# Altium footprint library wafer-scale-psd.PCBLIB: 8 footprints
Each footprint in its own frame and in the unit in brackets; x right, y up, seen from the top. Pads: shape width x height; smd on the part's side, far side on the other; paste and mask are expansions set on the pad; w line width, h text height; cw(c..) or ccw(c..) is an arc to the next point about the centre after c.
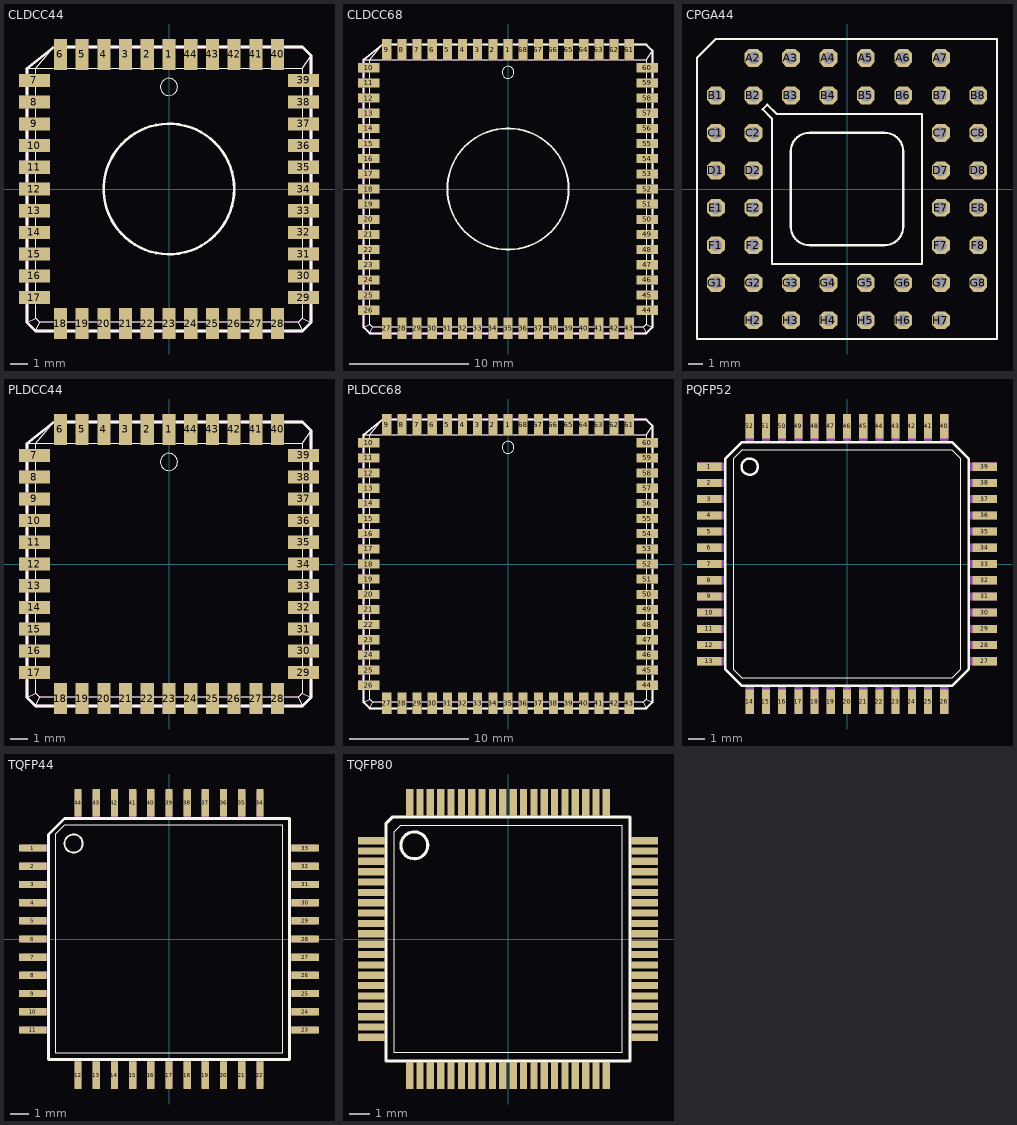
[diagram p0: the footprints below, top view; thin cyan lines are the x and y axes]

## CLDCC44 [mil]
pads (44):
  rect 29.92x70.87 smd: 1(0,309.45) 2(-50,309.45) 3(-100,309.45) 4(-150,309.45) 5(-200,309.45) 6(-250,309.45) 18(-250,-309.45) 19(-200,-309.45) 20(-150,-309.45) 21(-100,-309.45) 22(-50,-309.45) 23(0,-309.45) 24(50,-309.45) 25(100,-309.45) 26(150,-309.45) 27(200,-309.45) 28(250,-309.45) 40(250,309.45) 41(200,309.45) 42(150,309.45) 43(100,309.45) 44(50,309.45)
  rect 70.87x29.92 smd: 7(-309.45,250) 8(-309.45,200) 9(-309.45,150) 10(-309.45,100) 11(-309.45,50) 12(-309.45,0) 13(-309.45,-50) 14(-309.45,-100) 15(-309.45,-150) 16(-309.45,-200) 17(-309.45,-250) 29(309.45,-250) 30(309.45,-200) 31(309.45,-150) 32(309.45,-100) 33(309.45,-50) 34(309.45,0) 35(309.45,50) 36(309.45,100) 37(309.45,150) 38(309.45,200) 39(309.45,250)
Top Overlay:
  circle w2: c0,234.65 r19.69
  circle w6: c0,0 r150
  lines w2: -326.38,-306.69 -306.69,-296.85 ; -326.38,277.17 -306.69,277.17 ; -306.69,-326.38 -296.85,-306.69 ; -306.69,-265.75 -306.69,-296.85 ; -306.69,-234.25 -306.69,-215.75 ; -306.69,-184.25 -306.69,-165.75 ; -306.69,-134.25 -306.69,-115.75 ; -306.69,-84.25 -306.69,-65.75 ; -306.69,-34.25 -306.69,-15.75 ; -306.69,15.75 -306.69,34.25 ; -306.69,65.75 -306.69,84.25 ; -306.69,115.75 -306.69,134.25 ; -306.69,165.75 -306.69,184.25 ; -306.69,215.75 -306.69,234.25 ; -306.69,265.75 -306.69,277.17 ; -265.75,-306.69 -296.85,-306.69 ; -265.75,277.17 -306.69,277.17 ; -265.75,325.59 -306.69,277.17 ; -234.25,-306.69 -215.75,-306.69 ; -234.25,277.17 -215.75,277.17 ; -184.25,-306.69 -165.75,-306.69 ; -184.25,277.17 -165.75,277.17 ; -134.25,-306.69 -115.75,-306.69 ; -134.25,277.17 -115.75,277.17 ; -84.25,-306.69 -65.75,-306.69 ; -84.25,277.17 -65.75,277.17 ; -34.25,-306.69 -15.75,-306.69 ; -34.25,277.17 -15.75,277.17 ; 15.75,-306.69 34.25,-306.69 ; 15.75,277.17 34.25,277.17 ; 65.75,-306.69 84.25,-306.69 ; 65.75,277.17 84.25,277.17 ; 115.75,-306.69 134.25,-306.69 ; 115.75,277.17 134.25,277.17 ; 165.75,-306.69 184.25,-306.69 ; 165.75,277.17 184.25,277.17 ; 215.75,-306.69 234.25,-306.69 ; 215.75,277.17 234.25,277.17 ; 265.75,-306.69 296.85,-306.69 ; 265.75,277.17 306.69,277.17 ; 306.69,-326.38 296.85,-306.69 ; 306.69,-265.75 306.69,-296.85 ; 306.69,-234.25 306.69,-215.75 ; 306.69,-184.25 306.69,-165.75 ; 306.69,-134.25 306.69,-115.75 ; 306.69,-84.25 306.69,-65.75 ; 306.69,-34.25 306.69,-15.75 ; 306.69,15.75 306.69,34.25 ; 306.69,65.75 306.69,84.25 ; 306.69,115.75 306.69,134.25 ; 306.69,165.75 306.69,184.25 ; 306.69,215.75 306.69,234.25 ; 306.69,265.75 306.69,277.17 ; 326.38,-306.69 306.69,-296.85 ; 326.38,306.69 306.69,277.17 ; -306.69,-296.85 -296.85,-306.69 ; 296.85,-306.69 306.69,-296.85
  lines w6: -326.38,-267.32 -326.38,-306.69 -306.69,-326.38 -267.32,-326.38 ; -326.38,-232.68 -326.38,-217.32 ; -326.38,-182.68 -326.38,-167.32 ; -326.38,-132.68 -326.38,-117.32 ; -326.38,-82.68 -326.38,-67.32 ; -326.38,-32.68 -326.38,-17.32 ; -326.38,17.32 -326.38,32.68 ; -326.38,67.32 -326.38,82.68 ; -326.38,117.32 -326.38,132.68 ; -326.38,167.32 -326.38,182.68 ; -326.38,217.32 -326.38,232.68 ; -326.38,267.32 -326.38,277.17 -267.32,324.41 ; -232.68,-326.38 -217.32,-326.38 ; -232.68,326.38 -217.32,326.38 ; -182.68,-326.38 -167.32,-326.38 ; -182.68,326.38 -167.32,326.38 ; -132.68,-326.38 -117.32,-326.38 ; -132.68,326.38 -117.32,326.38 ; -82.68,-326.38 -67.32,-326.38 ; -82.68,326.38 -67.32,326.38 ; -32.68,-326.38 -17.32,-326.38 ; -32.68,326.38 -17.32,326.38 ; 17.32,-326.38 32.68,-326.38 ; 17.32,326.38 32.68,326.38 ; 67.32,-326.38 82.68,-326.38 ; 67.32,326.38 82.68,326.38 ; 117.32,-326.38 132.68,-326.38 ; 117.32,326.38 132.68,326.38 ; 167.32,-326.38 182.68,-326.38 ; 167.32,326.38 182.68,326.38 ; 217.32,-326.38 232.68,-326.38 ; 217.32,326.38 232.68,326.38 ; 267.32,-326.38 306.69,-326.38 326.38,-306.69 326.38,-267.32 ; 267.32,326.38 306.69,326.38 326.38,306.69 326.38,267.32 ; 326.38,-232.68 326.38,-217.32 ; 326.38,-182.68 326.38,-167.32 ; 326.38,-132.68 326.38,-117.32 ; 326.38,-82.68 326.38,-67.32 ; 326.38,-32.68 326.38,-17.32 ; 326.38,17.32 326.38,32.68 ; 326.38,67.32 326.38,82.68 ; 326.38,117.32 326.38,132.68 ; 326.38,167.32 326.38,182.68 ; 326.38,217.32 326.38,232.68
Mechanical 16:
  rectangle: 326.38,85.04 344.88,114.96
  rectangle: 326.38,35.04 344.88,64.96
  rectangle: 326.38,-14.96 344.88,14.96
  rectangle: 326.38,-64.96 344.88,-35.04
  rectangle: 326.38,-114.96 344.88,-85.04
  rectangle: 326.38,-164.96 344.88,-135.04
  rectangle: 326.38,-214.96 344.88,-185.04
  rectangle: 135.04,-344.88 164.96,-326.38
  rectangle: 85.04,-344.88 114.96,-326.38
  rectangle: 35.04,-344.88 64.96,-326.38
  rectangle: -14.96,-344.88 14.96,-326.38
  rectangle: -64.96,-344.88 -35.04,-326.38
  rectangle: -114.96,-344.88 -85.04,-326.38
  rectangle: -264.96,-344.88 -235.04,-326.38
  rectangle: -344.88,185.04 -326.38,214.96
  rectangle: -344.88,135.04 -326.38,164.96
  rectangle: -344.88,85.04 -326.38,114.96
  rectangle: -344.88,35.04 -326.38,64.96
  rectangle: -344.88,-14.96 -326.38,14.96
  rectangle: -344.88,-64.96 -326.38,-35.04
  rectangle: -344.88,-114.96 -326.38,-85.04
  rectangle: 135.04,326.38 164.96,344.88
  rectangle: 85.04,326.38 114.96,344.88
  rectangle: 35.04,326.38 64.96,344.88
  rectangle: -14.96,326.38 14.96,344.88
  rectangle: -64.96,326.38 -35.04,344.88
  rectangle: -114.96,326.38 -85.04,344.88
  rectangle: -264.96,326.38 -235.04,344.88
  rectangle: 326.38,135.04 344.88,164.96
  rectangle: 326.38,185.04 344.88,214.96
  rectangle: -344.88,-164.96 -326.38,-135.04
  rectangle: -344.88,-214.96 -326.38,-185.04
  rectangle: 185.04,326.38 214.96,344.88
  rectangle: 235.04,326.38 264.96,344.88
  rectangle: -164.96,326.38 -135.04,344.88
  rectangle: -214.96,326.38 -185.04,344.88
  rectangle: -344.88,-264.96 -326.38,-235.04
  rectangle: -214.96,-344.88 -185.04,-326.38
  rectangle: -164.96,-344.88 -135.04,-326.38
  rectangle: 185.04,-344.88 214.96,-326.38
  rectangle: 235.04,-344.88 264.96,-326.38
  rectangle: 326.38,-264.96 344.88,-235.04
  rectangle: 326.38,235.04 344.88,264.96
  rectangle: -344.88,235.04 -326.38,264.96
  lines w2: -326.38,-306.69 -306.69,-296.85 ; -326.38,277.17 -306.69,277.17 ; -306.69,-326.38 -296.85,-306.69 ; -264.96,326.38 -306.69,277.17 ; 306.69,-326.38 296.85,-306.69 ; 326.38,-306.69 306.69,-296.85 ; 326.38,306.69 306.69,277.17 ; -306.69,-296.85 -296.85,-306.69 ; -306.69,-296.85 -306.69,277.17 ; -306.69,277.17 306.69,277.17 ; -296.85,-306.69 296.85,-306.69 ; 296.85,-306.69 306.69,-296.85 ; 306.69,-296.85 306.69,277.17
  lines w6: -326.38,-306.69 -306.69,-326.38 306.69,-326.38 326.38,-306.69 326.38,306.69 306.69,326.38 -264.96,326.38 -326.38,277.17 -326.38,-306.69

## CLDCC68 [mil]
pads (68):
  rect 29.92x70.87 smd: 1(0,459.45) 2(-50,459.45) 3(-100,459.45) 4(-150,459.45) 5(-200,459.45) 6(-250,459.45) 7(-300,459.45) 8(-350,459.45) 9(-400,459.45) 27(-400,-459.45) 28(-350,-459.45) 29(-300,-459.45) 30(-250,-459.45) 31(-200,-459.45) 32(-150,-459.45) 33(-100,-459.45) 34(-50,-459.45) 35(0,-459.45) 36(50,-459.45) 37(100,-459.45) 38(150,-459.45) 39(200,-459.45) 40(250,-459.45) 41(300,-459.45) 42(350,-459.45) 43(400,-459.45) 61(400,459.45) 62(350,459.45) 63(300,459.45) 64(250,459.45) 65(200,459.45) 66(150,459.45) 67(100,459.45) 68(50,459.45)
  rect 70.87x29.92 smd: 10(-459.45,400) 11(-459.45,350) 12(-459.45,300) 13(-459.45,250) 14(-459.45,200) 15(-459.45,150) 16(-459.45,100) 17(-459.45,50) 18(-459.45,0) 19(-459.45,-50) 20(-459.45,-100) 21(-459.45,-150) 22(-459.45,-200) 23(-459.45,-250) 24(-459.45,-300) 25(-459.45,-350) 26(-459.45,-400) 44(459.45,-400) 45(459.45,-350) 46(459.45,-300) 47(459.45,-250) 48(459.45,-200) 49(459.45,-150) 50(459.45,-100) 51(459.45,-50) 52(459.45,0) 53(459.45,50) 54(459.45,100) 55(459.45,150) 56(459.45,200) 57(459.45,250) 58(459.45,300) 59(459.45,350) 60(459.45,400)
Top Overlay:
  drawing of 158 lines, arcs and shapes, not listed
Mechanical 16:
  rectangle: 476.38,85.04 494.88,114.96
  rectangle: 476.38,35.04 494.88,64.96
  rectangle: 476.38,-14.96 494.88,14.96
  rectangle: 476.38,-64.96 494.88,-35.04
  rectangle: 476.38,-114.96 494.88,-85.04
  rectangle: 476.38,-164.96 494.88,-135.04
  rectangle: 476.38,-214.96 494.88,-185.04
  rectangle: 135.04,-494.88 164.96,-476.38
  rectangle: 85.04,-494.88 114.96,-476.38
  rectangle: 35.04,-494.88 64.96,-476.38
  rectangle: -14.96,-494.88 14.96,-476.38
  rectangle: -64.96,-494.88 -35.04,-476.38
  rectangle: -114.96,-494.88 -85.04,-476.38
  rectangle: -414.96,-494.88 -385.04,-476.38
  rectangle: -494.88,185.04 -476.38,214.96
  rectangle: -494.88,135.04 -476.38,164.96
  rectangle: -494.88,85.04 -476.38,114.96
  rectangle: -494.88,35.04 -476.38,64.96
  rectangle: -494.88,-14.96 -476.38,14.96
  rectangle: -494.88,-64.96 -476.38,-35.04
  rectangle: -494.88,-114.96 -476.38,-85.04
  rectangle: 135.04,476.38 164.96,494.88
  rectangle: 85.04,476.38 114.96,494.88
  rectangle: 35.04,476.38 64.96,494.88
  rectangle: -14.96,476.38 14.96,494.88
  rectangle: -64.96,476.38 -35.04,494.88
  rectangle: -114.96,476.38 -85.04,494.88
  rectangle: -414.96,476.38 -385.04,494.88
  rectangle: 476.38,135.04 494.88,164.96
  rectangle: 476.38,185.04 494.88,214.96
  rectangle: -494.88,-164.96 -476.38,-135.04
  rectangle: -494.88,-214.96 -476.38,-185.04
  rectangle: 185.04,476.38 214.96,494.88
  rectangle: 235.04,476.38 264.96,494.88
  rectangle: -164.96,476.38 -135.04,494.88
  rectangle: -214.96,476.38 -185.04,494.88
  rectangle: -494.88,-264.96 -476.38,-235.04
  rectangle: -214.96,-494.88 -185.04,-476.38
  rectangle: -164.96,-494.88 -135.04,-476.38
  rectangle: 185.04,-494.88 214.96,-476.38
  rectangle: 235.04,-494.88 264.96,-476.38
  rectangle: 476.38,-264.96 494.88,-235.04
  rectangle: 476.38,235.04 494.88,264.96
  rectangle: -494.88,235.04 -476.38,264.96
  rectangle: -264.96,-494.88 -235.04,-476.38
  rectangle: -314.96,-494.88 -285.04,-476.38
  rectangle: -364.96,-494.88 -335.04,-476.38
  rectangle: -494.88,-314.96 -476.38,-285.04
  rectangle: -494.88,-364.96 -476.38,-335.04
  rectangle: -494.88,-414.96 -476.38,-385.04
  rectangle: -494.88,285.04 -476.38,314.96
  rectangle: -494.88,335.04 -476.38,364.96
  rectangle: -494.88,385.04 -476.38,414.96
  rectangle: -264.96,476.38 -235.04,494.88
  rectangle: -314.96,476.38 -285.04,494.88
  rectangle: -364.96,476.38 -335.04,494.88
  rectangle: 476.38,285.04 494.88,314.96
  rectangle: 476.38,335.04 494.88,364.96
  rectangle: 476.38,385.04 494.88,414.96
  rectangle: 285.04,476.38 314.96,494.88
  rectangle: 335.04,476.38 364.96,494.88
  rectangle: 385.04,476.38 414.96,494.88
  rectangle: 476.38,-314.96 494.88,-285.04
  rectangle: 476.38,-364.96 494.88,-335.04
  rectangle: 476.38,-414.96 494.88,-385.04
  rectangle: 285.04,-494.88 314.96,-476.38
  rectangle: 335.04,-494.88 364.96,-476.38
  rectangle: 385.04,-494.88 414.96,-476.38
  lines w2: -476.38,-456.69 -456.69,-446.85 ; -476.38,427.17 -456.69,427.17 ; -456.69,-476.38 -446.85,-456.69 ; -414.96,476.38 -456.69,427.17 ; 456.69,-476.38 446.85,-456.69 ; 476.38,-456.69 456.69,-446.85 ; 476.38,456.69 456.69,427.17 ; -456.69,-446.85 -446.85,-456.69 ; -456.69,-446.85 -456.69,427.17 ; -456.69,427.17 456.69,427.17 ; -446.85,-456.69 446.85,-456.69 ; 446.85,-456.69 456.69,-446.85 ; 456.69,-446.85 456.69,427.17
  lines w6: -476.38,-456.69 -456.69,-476.38 456.69,-476.38 476.38,-456.69 476.38,456.69 456.69,476.38 -414.96,476.38 -476.38,427.17 -476.38,-456.69

## CPGA44 [mil]
pads (44):
  oct 48x48 hole 32: A2(-250,350) A3(-150,350) A4(-50,350) A5(50,350) A6(150,350) A7(250,350) B1(-350,250) B2(-250,250) B3(-150,250) B4(-50,250) B5(50,250) B6(150,250) B7(250,250) B8(350,250) C1(-350,150) C2(-250,150) C7(250,150) C8(350,150) D1(-350,50) D2(-250,50) D7(250,50) D8(350,50) E1(-350,-50) E2(-250,-50) E7(250,-50) E8(350,-50) F1(-350,-150) F2(-250,-150) F7(250,-150) F8(350,-150) G1(-350,-250) G2(-250,-250) G3(-150,-250) G4(-50,-250) G5(50,-250) G6(150,-250) G7(250,-250) G8(350,-250) H2(-250,-350) H3(-150,-350) H4(-50,-350) H5(50,-350) H6(150,-350) H7(250,-350)
Top Overlay:
  lines w6: -400,-400 -400,350 -350,400 400,400 400,-400 -400,-400 ; -225,212.5 -200,187.5 -200,-200 200,-200 200,200 -187.5,200 -212.5,225 -225,212.5 ; -150,-100 -150,100 cw(c-100,100) -100,150 100,150 cw(c100,100) 150,100 150,-100 cw(c100,-100) 100,-150 -100,-150 cw(c-100,-100) -150,-100

## PLDCC44 [mil]
pads (44):
  rect 29.92x70.87 smd: 1(0,309.45) 2(-50,309.45) 3(-100,309.45) 4(-150,309.45) 5(-200,309.45) 6(-250,309.45) 18(-250,-309.45) 19(-200,-309.45) 20(-150,-309.45) 21(-100,-309.45) 22(-50,-309.45) 23(0,-309.45) 24(50,-309.45) 25(100,-309.45) 26(150,-309.45) 27(200,-309.45) 28(250,-309.45) 40(250,309.45) 41(200,309.45) 42(150,309.45) 43(100,309.45) 44(50,309.45)
  rect 70.87x29.92 smd: 7(-309.45,250) 8(-309.45,200) 9(-309.45,150) 10(-309.45,100) 11(-309.45,50) 12(-309.45,0) 13(-309.45,-50) 14(-309.45,-100) 15(-309.45,-150) 16(-309.45,-200) 17(-309.45,-250) 29(309.45,-250) 30(309.45,-200) 31(309.45,-150) 32(309.45,-100) 33(309.45,-50) 34(309.45,0) 35(309.45,50) 36(309.45,100) 37(309.45,150) 38(309.45,200) 39(309.45,250)
Top Overlay:
  circle w2: c0,234.65 r19.69
  lines w2: -326.38,-306.69 -306.69,-296.85 ; -326.38,277.17 -306.69,277.17 ; -306.69,-326.38 -296.85,-306.69 ; -306.69,-265.75 -306.69,-296.85 ; -306.69,-234.25 -306.69,-215.75 ; -306.69,-184.25 -306.69,-165.75 ; -306.69,-134.25 -306.69,-115.75 ; -306.69,-84.25 -306.69,-65.75 ; -306.69,-34.25 -306.69,-15.75 ; -306.69,15.75 -306.69,34.25 ; -306.69,65.75 -306.69,84.25 ; -306.69,115.75 -306.69,134.25 ; -306.69,165.75 -306.69,184.25 ; -306.69,215.75 -306.69,234.25 ; -306.69,265.75 -306.69,277.17 ; -265.75,-306.69 -296.85,-306.69 ; -265.75,277.17 -306.69,277.17 ; -265.75,325.59 -306.69,277.17 ; -234.25,-306.69 -215.75,-306.69 ; -234.25,277.17 -215.75,277.17 ; -184.25,-306.69 -165.75,-306.69 ; -184.25,277.17 -165.75,277.17 ; -134.25,-306.69 -115.75,-306.69 ; -134.25,277.17 -115.75,277.17 ; -84.25,-306.69 -65.75,-306.69 ; -84.25,277.17 -65.75,277.17 ; -34.25,-306.69 -15.75,-306.69 ; -34.25,277.17 -15.75,277.17 ; 15.75,-306.69 34.25,-306.69 ; 15.75,277.17 34.25,277.17 ; 65.75,-306.69 84.25,-306.69 ; 65.75,277.17 84.25,277.17 ; 115.75,-306.69 134.25,-306.69 ; 115.75,277.17 134.25,277.17 ; 165.75,-306.69 184.25,-306.69 ; 165.75,277.17 184.25,277.17 ; 215.75,-306.69 234.25,-306.69 ; 215.75,277.17 234.25,277.17 ; 265.75,-306.69 296.85,-306.69 ; 265.75,277.17 306.69,277.17 ; 306.69,-326.38 296.85,-306.69 ; 306.69,-265.75 306.69,-296.85 ; 306.69,-234.25 306.69,-215.75 ; 306.69,-184.25 306.69,-165.75 ; 306.69,-134.25 306.69,-115.75 ; 306.69,-84.25 306.69,-65.75 ; 306.69,-34.25 306.69,-15.75 ; 306.69,15.75 306.69,34.25 ; 306.69,65.75 306.69,84.25 ; 306.69,115.75 306.69,134.25 ; 306.69,165.75 306.69,184.25 ; 306.69,215.75 306.69,234.25 ; 306.69,265.75 306.69,277.17 ; 326.38,-306.69 306.69,-296.85 ; 326.38,306.69 306.69,277.17 ; -306.69,-296.85 -296.85,-306.69 ; 296.85,-306.69 306.69,-296.85
  lines w6: -326.38,-267.32 -326.38,-306.69 -306.69,-326.38 -267.32,-326.38 ; -326.38,-232.68 -326.38,-217.32 ; -326.38,-182.68 -326.38,-167.32 ; -326.38,-132.68 -326.38,-117.32 ; -326.38,-82.68 -326.38,-67.32 ; -326.38,-32.68 -326.38,-17.32 ; -326.38,17.32 -326.38,32.68 ; -326.38,67.32 -326.38,82.68 ; -326.38,117.32 -326.38,132.68 ; -326.38,167.32 -326.38,182.68 ; -326.38,217.32 -326.38,232.68 ; -326.38,267.32 -326.38,277.17 -267.32,324.41 ; -232.68,-326.38 -217.32,-326.38 ; -232.68,326.38 -217.32,326.38 ; -182.68,-326.38 -167.32,-326.38 ; -182.68,326.38 -167.32,326.38 ; -132.68,-326.38 -117.32,-326.38 ; -132.68,326.38 -117.32,326.38 ; -82.68,-326.38 -67.32,-326.38 ; -82.68,326.38 -67.32,326.38 ; -32.68,-326.38 -17.32,-326.38 ; -32.68,326.38 -17.32,326.38 ; 17.32,-326.38 32.68,-326.38 ; 17.32,326.38 32.68,326.38 ; 67.32,-326.38 82.68,-326.38 ; 67.32,326.38 82.68,326.38 ; 117.32,-326.38 132.68,-326.38 ; 117.32,326.38 132.68,326.38 ; 167.32,-326.38 182.68,-326.38 ; 167.32,326.38 182.68,326.38 ; 217.32,-326.38 232.68,-326.38 ; 217.32,326.38 232.68,326.38 ; 267.32,-326.38 306.69,-326.38 326.38,-306.69 326.38,-267.32 ; 267.32,326.38 306.69,326.38 326.38,306.69 326.38,267.32 ; 326.38,-232.68 326.38,-217.32 ; 326.38,-182.68 326.38,-167.32 ; 326.38,-132.68 326.38,-117.32 ; 326.38,-82.68 326.38,-67.32 ; 326.38,-32.68 326.38,-17.32 ; 326.38,17.32 326.38,32.68 ; 326.38,67.32 326.38,82.68 ; 326.38,117.32 326.38,132.68 ; 326.38,167.32 326.38,182.68 ; 326.38,217.32 326.38,232.68
Mechanical 16:
  rectangle: 326.38,85.04 344.88,114.96
  rectangle: 326.38,35.04 344.88,64.96
  rectangle: 326.38,-14.96 344.88,14.96
  rectangle: 326.38,-64.96 344.88,-35.04
  rectangle: 326.38,-114.96 344.88,-85.04
  rectangle: 326.38,-164.96 344.88,-135.04
  rectangle: 326.38,-214.96 344.88,-185.04
  rectangle: 135.04,-344.88 164.96,-326.38
  rectangle: 85.04,-344.88 114.96,-326.38
  rectangle: 35.04,-344.88 64.96,-326.38
  rectangle: -14.96,-344.88 14.96,-326.38
  rectangle: -64.96,-344.88 -35.04,-326.38
  rectangle: -114.96,-344.88 -85.04,-326.38
  rectangle: -264.96,-344.88 -235.04,-326.38
  rectangle: -344.88,185.04 -326.38,214.96
  rectangle: -344.88,135.04 -326.38,164.96
  rectangle: -344.88,85.04 -326.38,114.96
  rectangle: -344.88,35.04 -326.38,64.96
  rectangle: -344.88,-14.96 -326.38,14.96
  rectangle: -344.88,-64.96 -326.38,-35.04
  rectangle: -344.88,-114.96 -326.38,-85.04
  rectangle: 135.04,326.38 164.96,344.88
  rectangle: 85.04,326.38 114.96,344.88
  rectangle: 35.04,326.38 64.96,344.88
  rectangle: -14.96,326.38 14.96,344.88
  rectangle: -64.96,326.38 -35.04,344.88
  rectangle: -114.96,326.38 -85.04,344.88
  rectangle: -264.96,326.38 -235.04,344.88
  rectangle: 326.38,135.04 344.88,164.96
  rectangle: 326.38,185.04 344.88,214.96
  rectangle: -344.88,-164.96 -326.38,-135.04
  rectangle: -344.88,-214.96 -326.38,-185.04
  rectangle: 185.04,326.38 214.96,344.88
  rectangle: 235.04,326.38 264.96,344.88
  rectangle: -164.96,326.38 -135.04,344.88
  rectangle: -214.96,326.38 -185.04,344.88
  rectangle: -344.88,-264.96 -326.38,-235.04
  rectangle: -214.96,-344.88 -185.04,-326.38
  rectangle: -164.96,-344.88 -135.04,-326.38
  rectangle: 185.04,-344.88 214.96,-326.38
  rectangle: 235.04,-344.88 264.96,-326.38
  rectangle: 326.38,-264.96 344.88,-235.04
  rectangle: 326.38,235.04 344.88,264.96
  rectangle: -344.88,235.04 -326.38,264.96
  lines w2: -326.38,-306.69 -306.69,-296.85 ; -326.38,277.17 -306.69,277.17 ; -306.69,-326.38 -296.85,-306.69 ; -264.96,326.38 -306.69,277.17 ; 306.69,-326.38 296.85,-306.69 ; 326.38,-306.69 306.69,-296.85 ; 326.38,306.69 306.69,277.17 ; -306.69,-296.85 -296.85,-306.69 ; -306.69,-296.85 -306.69,277.17 ; -306.69,277.17 306.69,277.17 ; -296.85,-306.69 296.85,-306.69 ; 296.85,-306.69 306.69,-296.85 ; 306.69,-296.85 306.69,277.17
  lines w6: -326.38,-306.69 -306.69,-326.38 306.69,-326.38 326.38,-306.69 326.38,306.69 306.69,326.38 -264.96,326.38 -326.38,277.17 -326.38,-306.69

## PLDCC68 [mil]
pads (68):
  rect 29.92x70.87 smd: 1(0,459.45) 2(-50,459.45) 3(-100,459.45) 4(-150,459.45) 5(-200,459.45) 6(-250,459.45) 7(-300,459.45) 8(-350,459.45) 9(-400,459.45) 27(-400,-459.45) 28(-350,-459.45) 29(-300,-459.45) 30(-250,-459.45) 31(-200,-459.45) 32(-150,-459.45) 33(-100,-459.45) 34(-50,-459.45) 35(0,-459.45) 36(50,-459.45) 37(100,-459.45) 38(150,-459.45) 39(200,-459.45) 40(250,-459.45) 41(300,-459.45) 42(350,-459.45) 43(400,-459.45) 61(400,459.45) 62(350,459.45) 63(300,459.45) 64(250,459.45) 65(200,459.45) 66(150,459.45) 67(100,459.45) 68(50,459.45)
  rect 70.87x29.92 smd: 10(-459.45,400) 11(-459.45,350) 12(-459.45,300) 13(-459.45,250) 14(-459.45,200) 15(-459.45,150) 16(-459.45,100) 17(-459.45,50) 18(-459.45,0) 19(-459.45,-50) 20(-459.45,-100) 21(-459.45,-150) 22(-459.45,-200) 23(-459.45,-250) 24(-459.45,-300) 25(-459.45,-350) 26(-459.45,-400) 44(459.45,-400) 45(459.45,-350) 46(459.45,-300) 47(459.45,-250) 48(459.45,-200) 49(459.45,-150) 50(459.45,-100) 51(459.45,-50) 52(459.45,0) 53(459.45,50) 54(459.45,100) 55(459.45,150) 56(459.45,200) 57(459.45,250) 58(459.45,300) 59(459.45,350) 60(459.45,400)
Top Overlay:
  drawing of 157 lines, arcs and shapes, not listed
Mechanical 16:
  rectangle: 476.38,85.04 494.88,114.96
  rectangle: 476.38,35.04 494.88,64.96
  rectangle: 476.38,-14.96 494.88,14.96
  rectangle: 476.38,-64.96 494.88,-35.04
  rectangle: 476.38,-114.96 494.88,-85.04
  rectangle: 476.38,-164.96 494.88,-135.04
  rectangle: 476.38,-214.96 494.88,-185.04
  rectangle: 135.04,-494.88 164.96,-476.38
  rectangle: 85.04,-494.88 114.96,-476.38
  rectangle: 35.04,-494.88 64.96,-476.38
  rectangle: -14.96,-494.88 14.96,-476.38
  rectangle: -64.96,-494.88 -35.04,-476.38
  rectangle: -114.96,-494.88 -85.04,-476.38
  rectangle: -414.96,-494.88 -385.04,-476.38
  rectangle: -494.88,185.04 -476.38,214.96
  rectangle: -494.88,135.04 -476.38,164.96
  rectangle: -494.88,85.04 -476.38,114.96
  rectangle: -494.88,35.04 -476.38,64.96
  rectangle: -494.88,-14.96 -476.38,14.96
  rectangle: -494.88,-64.96 -476.38,-35.04
  rectangle: -494.88,-114.96 -476.38,-85.04
  rectangle: 135.04,476.38 164.96,494.88
  rectangle: 85.04,476.38 114.96,494.88
  rectangle: 35.04,476.38 64.96,494.88
  rectangle: -14.96,476.38 14.96,494.88
  rectangle: -64.96,476.38 -35.04,494.88
  rectangle: -114.96,476.38 -85.04,494.88
  rectangle: -414.96,476.38 -385.04,494.88
  rectangle: 476.38,135.04 494.88,164.96
  rectangle: 476.38,185.04 494.88,214.96
  rectangle: -494.88,-164.96 -476.38,-135.04
  rectangle: -494.88,-214.96 -476.38,-185.04
  rectangle: 185.04,476.38 214.96,494.88
  rectangle: 235.04,476.38 264.96,494.88
  rectangle: -164.96,476.38 -135.04,494.88
  rectangle: -214.96,476.38 -185.04,494.88
  rectangle: -494.88,-264.96 -476.38,-235.04
  rectangle: -214.96,-494.88 -185.04,-476.38
  rectangle: -164.96,-494.88 -135.04,-476.38
  rectangle: 185.04,-494.88 214.96,-476.38
  rectangle: 235.04,-494.88 264.96,-476.38
  rectangle: 476.38,-264.96 494.88,-235.04
  rectangle: 476.38,235.04 494.88,264.96
  rectangle: -494.88,235.04 -476.38,264.96
  rectangle: -264.96,-494.88 -235.04,-476.38
  rectangle: -314.96,-494.88 -285.04,-476.38
  rectangle: -364.96,-494.88 -335.04,-476.38
  rectangle: -494.88,-314.96 -476.38,-285.04
  rectangle: -494.88,-364.96 -476.38,-335.04
  rectangle: -494.88,-414.96 -476.38,-385.04
  rectangle: -494.88,285.04 -476.38,314.96
  rectangle: -494.88,335.04 -476.38,364.96
  rectangle: -494.88,385.04 -476.38,414.96
  rectangle: -264.96,476.38 -235.04,494.88
  rectangle: -314.96,476.38 -285.04,494.88
  rectangle: -364.96,476.38 -335.04,494.88
  rectangle: 476.38,285.04 494.88,314.96
  rectangle: 476.38,335.04 494.88,364.96
  rectangle: 476.38,385.04 494.88,414.96
  rectangle: 285.04,476.38 314.96,494.88
  rectangle: 335.04,476.38 364.96,494.88
  rectangle: 385.04,476.38 414.96,494.88
  rectangle: 476.38,-314.96 494.88,-285.04
  rectangle: 476.38,-364.96 494.88,-335.04
  rectangle: 476.38,-414.96 494.88,-385.04
  rectangle: 285.04,-494.88 314.96,-476.38
  rectangle: 335.04,-494.88 364.96,-476.38
  rectangle: 385.04,-494.88 414.96,-476.38
  lines w2: -476.38,-456.69 -456.69,-446.85 ; -476.38,427.17 -456.69,427.17 ; -456.69,-476.38 -446.85,-456.69 ; -414.96,476.38 -456.69,427.17 ; 456.69,-476.38 446.85,-456.69 ; 476.38,-456.69 456.69,-446.85 ; 476.38,456.69 456.69,427.17 ; -456.69,-446.85 -446.85,-456.69 ; -456.69,-446.85 -456.69,427.17 ; -456.69,427.17 456.69,427.17 ; -446.85,-456.69 446.85,-456.69 ; 446.85,-456.69 456.69,-446.85 ; 456.69,-446.85 456.69,427.17
  lines w6: -476.38,-456.69 -456.69,-476.38 456.69,-476.38 476.38,-456.69 476.38,456.69 456.69,476.38 -414.96,476.38 -476.38,427.17 -476.38,-456.69

## PQFP52 [mm]
pads (52):
  rect 1.5x0.5 smd: 1(-8.5,6) 2(-8.5,5) 3(-8.5,4) 4(-8.5,3) 5(-8.5,2) 6(-8.5,1) 7(-8.5,0) 8(-8.5,-1) 9(-8.5,-2) 10(-8.5,-3) 11(-8.5,-4) 12(-8.5,-5) 13(-8.5,-6) 27(8.5,-6) 28(8.5,-5) 29(8.5,-4) 30(8.5,-3) 31(8.5,-2) 32(8.5,-1) 33(8.5,0) 34(8.5,1) 35(8.5,2) 36(8.5,3) 37(8.5,4) 38(8.5,5) 39(8.5,6)
  rect 0.5x1.5 smd: 14(-6,-8.5) 15(-5,-8.5) 16(-4,-8.5) 17(-3,-8.5) 18(-2,-8.5) 19(-1,-8.5) 20(0,-8.5) 21(1,-8.5) 22(2,-8.5) 23(3,-8.5) 24(4,-8.5) 25(5,-8.5) 26(6,-8.5) 40(6,8.5) 41(5,8.5) 42(4,8.5) 43(3,8.5) 44(2,8.5) 45(1,8.5) 46(0,8.5) 47(-1,8.5) 48(-2,8.5) 49(-3,8.5) 50(-4,8.5) 51(-5,8.5) 52(-6,8.5)
Top Overlay:
  circle w0.152: c-6,6 r0.5
  lines w0.051: -7,-6.5 -7,6.5 -6.5,7 6.5,7 7,6.5 7,-6.5 6.5,-7 -6.5,-7 -7,-6.5
  lines w0.152: -7.5,-6.5 -7.5,6.5 -6.5,7.5 6.5,7.5 7.5,6.5 7.5,-6.5 6.5,-7.5 -6.5,-7.5 -7.5,-6.5
Mechanical 16:
  rectangle: -9.25,5.75 -7.5,6.25
  rectangle: -9.25,4.75 -7.5,5.25
  rectangle: -9.25,3.75 -7.5,4.25
  rectangle: -9.25,2.75 -7.5,3.25
  rectangle: -9.25,1.75 -7.5,2.25
  rectangle: -9.25,0.75 -7.5,1.25
  rectangle: -9.25,-0.25 -7.5,0.25
  rectangle: -9.25,-1.25 -7.5,-0.75
  rectangle: -9.25,-2.25 -7.5,-1.75
  rectangle: -9.25,-3.25 -7.5,-2.75
  rectangle: -9.25,-4.25 -7.5,-3.75
  rectangle: -9.25,-5.25 -7.5,-4.75
  rectangle: -6.25,-9.25 -5.75,-7.5
  rectangle: -5.25,-9.25 -4.75,-7.5
  rectangle: -4.25,-9.25 -3.75,-7.5
  rectangle: -3.25,-9.25 -2.75,-7.5
  rectangle: -2.25,-9.25 -1.75,-7.5
  rectangle: -1.25,-9.25 -0.75,-7.5
  rectangle: -0.25,-9.25 0.25,-7.5
  rectangle: 0.75,-9.25 1.25,-7.5
  rectangle: 1.75,-9.25 2.25,-7.5
  rectangle: 2.75,-9.25 3.25,-7.5
  rectangle: 3.75,-9.25 4.25,-7.5
  rectangle: 4.75,-9.25 5.25,-7.5
  rectangle: 5.75,-9.25 6.25,-7.5
  rectangle: 7.5,-6.25 9.25,-5.75
  rectangle: 7.5,-5.25 9.25,-4.75
  rectangle: 7.5,-4.25 9.25,-3.75
  rectangle: 7.5,-3.25 9.25,-2.75
  rectangle: 7.5,-2.25 9.25,-1.75
  rectangle: 7.5,-1.25 9.25,-0.75
  rectangle: 7.5,-0.25 9.25,0.25
  rectangle: 7.5,0.75 9.25,1.25
  rectangle: 7.5,1.75 9.25,2.25
  rectangle: 7.5,2.75 9.25,3.25
  rectangle: 7.5,3.75 9.25,4.25
  rectangle: 7.5,4.75 9.25,5.25
  rectangle: 7.5,5.75 9.25,6.25
  rectangle: 4.75,7.5 5.25,9.25
  rectangle: 5.75,7.5 6.25,9.25
  rectangle: -1.25,7.5 -0.75,9.25
  rectangle: -0.25,7.5 0.25,9.25
  rectangle: 0.75,7.5 1.25,9.25
  rectangle: 1.75,7.5 2.25,9.25
  rectangle: 2.75,7.5 3.25,9.25
  rectangle: 3.75,7.5 4.25,9.25
  rectangle: -2.25,7.5 -1.75,9.25
  rectangle: -3.25,7.5 -2.75,9.25
  rectangle: -4.25,7.5 -3.75,9.25
  rectangle: -5.25,7.5 -4.75,9.25
  rectangle: -6.25,7.5 -5.75,9.25
  rectangle: -9.25,-6.25 -7.5,-5.75

## TQFP44 [mm]
pads (44):
  rect 1.5x0.4 smd: 1(-7.5,5) 2(-7.5,4) 3(-7.5,3) 4(-7.5,2) 5(-7.5,1) 6(-7.5,0) 7(-7.5,-1) 8(-7.5,-2) 9(-7.5,-3) 10(-7.5,-4) 11(-7.5,-5) 23(7.5,-5) 24(7.5,-4) 25(7.5,-3) 26(7.5,-2) 27(7.5,-1) 28(7.5,0) 29(7.5,1) 30(7.5,2) 31(7.5,3) 32(7.5,4) 33(7.5,5)
  rect 0.4x1.5 smd: 12(-5,-7.5) 13(-4,-7.5) 14(-3,-7.5) 15(-2,-7.5) 16(-1,-7.5) 17(0,-7.5) 18(1,-7.5) 19(2,-7.5) 20(3,-7.5) 21(4,-7.5) 22(5,-7.5) 34(5,7.5) 35(4,7.5) 36(3,7.5) 37(2,7.5) 38(1,7.5) 39(0,7.5) 40(-1,7.5) 41(-2,7.5) 42(-3,7.5) 43(-4,7.5) 44(-5,7.5)
Top Overlay:
  circle w0.102: c-5.25,5.25 r0.5
  lines w0.051: -6.25,-6.25 6.25,-6.25 6.25,6.25 -5.75,6.25 -6.25,5.75 -6.25,-6.25
  lines w0.152: -6.623,-6.623 -6.623,5.75 -5.75,6.623 6.623,6.623 6.623,-6.623 -6.623,-6.623
Mechanical 16:
  rectangle: -5.2,6.623 -4.8,8.123
  rectangle: -4.2,6.623 -3.8,8.123
  rectangle: -3.2,6.623 -2.8,8.123
  rectangle: -2.2,6.623 -1.8,8.123
  rectangle: -1.2,6.623 -0.8,8.123
  rectangle: -0.2,6.623 0.2,8.123
  rectangle: 0.8,6.623 1.2,8.123
  rectangle: 1.8,6.623 2.2,8.123
  rectangle: 2.8,6.623 3.2,8.123
  rectangle: 3.8,6.623 4.2,8.123
  rectangle: 4.8,6.623 5.2,8.123
  rectangle: 6.623,4.8 8.123,5.2
  rectangle: 6.623,3.8 8.123,4.2
  rectangle: 6.623,2.8 8.123,3.2
  rectangle: 6.623,1.8 8.123,2.2
  rectangle: 6.623,0.8 8.123,1.2
  rectangle: 6.623,-0.2 8.123,0.2
  rectangle: 6.623,-1.2 8.123,-0.8
  rectangle: 6.623,-2.2 8.123,-1.8
  rectangle: 6.623,-3.2 8.123,-2.8
  rectangle: 6.623,-4.2 8.123,-3.8
  rectangle: 6.623,-5.2 8.123,-4.8
  rectangle: 4.8,-8.123 5.2,-6.623
  rectangle: 3.8,-8.123 4.2,-6.623
  rectangle: 2.8,-8.123 3.2,-6.623
  rectangle: 1.8,-8.123 2.2,-6.623
  rectangle: 0.8,-8.123 1.2,-6.623
  rectangle: -0.2,-8.123 0.2,-6.623
  rectangle: -1.2,-8.123 -0.8,-6.623
  rectangle: -2.2,-8.123 -1.8,-6.623
  rectangle: -3.2,-8.123 -2.8,-6.623
  rectangle: -4.2,-8.123 -3.8,-6.623
  rectangle: -5.2,-8.123 -4.8,-6.623
  rectangle: -8.123,-5.2 -6.623,-4.8
  rectangle: -8.123,-4.2 -6.623,-3.8
  rectangle: -8.123,-3.2 -6.623,-2.8
  rectangle: -8.123,-2.2 -6.623,-1.8
  rectangle: -8.123,-1.2 -6.623,-0.8
  rectangle: -8.123,-0.2 -6.623,0.2
  rectangle: -8.123,0.8 -6.623,1.2
  rectangle: -8.123,1.8 -6.623,2.2
  rectangle: -8.123,4.8 -6.623,5.2
  rectangle: -8.123,3.8 -6.623,4.2
  rectangle: -8.123,2.8 -6.623,3.2

## TQFP80 [mm]
pads (80):
  rect 1.3x0.35 smd: 1(-6.595,4.75) 2(-6.595,4.25) 3(-6.595,3.75) 4(-6.595,3.25) 5(-6.595,2.75) 6(-6.595,2.25) 7(-6.595,1.75) 8(-6.595,1.25) 9(-6.595,0.75) 10(-6.595,0.25) 11(-6.595,-0.25) 12(-6.595,-0.75) 13(-6.595,-1.25) 14(-6.595,-1.75) 15(-6.595,-2.25) 16(-6.595,-2.75) 17(-6.595,-3.25) 18(-6.595,-3.75) 19(-6.595,-4.25) 20(-6.595,-4.75) 41(6.595,-4.75) 42(6.595,-4.25) 43(6.595,-3.75) 44(6.595,-3.25) 45(6.595,-2.75) 46(6.595,-2.25) 47(6.595,-1.75) 48(6.595,-1.25) 49(6.595,-0.75) 50(6.595,-0.25) 51(6.595,0.25) 52(6.595,0.75) 53(6.595,1.25) 54(6.595,1.75) 55(6.595,2.25) 56(6.595,2.75) 57(6.595,3.25) 58(6.595,3.75) 59(6.595,4.25) 60(6.595,4.75)
  rect 0.35x1.3 smd: 21(-4.75,-6.595) 22(-4.25,-6.595) 23(-3.75,-6.595) 24(-3.25,-6.595) 25(-2.75,-6.595) 26(-2.25,-6.595) 27(-1.75,-6.595) 28(-1.25,-6.595) 29(-0.75,-6.595) 30(-0.25,-6.595) 31(0.25,-6.595) 32(0.75,-6.595) 33(1.25,-6.595) 34(1.75,-6.595) 35(2.25,-6.595) 36(2.75,-6.595) 37(3.25,-6.595) 38(3.75,-6.595) 39(4.25,-6.595) 40(4.75,-6.595) 61(4.75,6.595) 62(4.25,6.595) 63(3.75,6.595) 64(3.25,6.595) 65(2.75,6.595) 66(2.25,6.595) 67(1.75,6.595) 68(1.25,6.595) 69(0.75,6.595) 70(0.25,6.595) 71(-0.25,6.595) 72(-0.75,6.595) 73(-1.25,6.595) 74(-1.75,6.595) 75(-2.25,6.595) 76(-2.75,6.595) 77(-3.25,6.595) 78(-3.75,6.595) 79(-4.25,6.595) 80(-4.75,6.595)
Top Overlay:
  circle w0.152: c-4.525,4.525 r0.65
  lines w0.051: -5.5,-5.5 5.5,-5.5 5.5,5.5 -5.175,5.5 -5.5,5.175 -5.5,-5.5
  lines w0.152: -5.898,-5.898 5.898,-5.898 5.898,5.898 -5.573,5.898 -5.898,5.573 -5.898,-5.898
Mechanical 16:
  rectangle: -7,4.6 -5.9,4.9
  rectangle: -7,4.1 -5.9,4.4
  rectangle: -7,3.6 -5.9,3.9
  rectangle: -7,3.1 -5.9,3.4
  rectangle: -7,2.6 -5.9,2.9
  rectangle: -7,2.1 -5.9,2.4
  rectangle: -7,1.6 -5.9,1.9
  rectangle: -7,1.1 -5.9,1.4
  rectangle: -7,0.6 -5.9,0.9
  rectangle: -7,0.1 -5.9,0.4
  rectangle: -7,-0.4 -5.9,-0.1
  rectangle: -7,-0.9 -5.9,-0.6
  rectangle: -7,-1.4 -5.9,-1.1
  rectangle: -7,-1.9 -5.9,-1.6
  rectangle: -7,-2.4 -5.9,-2.1
  rectangle: -7,-2.9 -5.9,-2.6
  rectangle: -7,-3.4 -5.9,-3.1
  rectangle: -7,-3.9 -5.9,-3.6
  rectangle: -7,-4.4 -5.9,-4.1
  rectangle: -7,-4.9 -5.9,-4.6
  rectangle: -4.9,-7 -4.6,-5.9
  rectangle: -4.4,-7 -4.1,-5.9
  rectangle: -3.9,-7 -3.6,-5.9
  rectangle: -3.4,-7 -3.1,-5.9
  rectangle: -2.9,-7 -2.6,-5.9
  rectangle: -2.4,-7 -2.1,-5.9
  rectangle: -1.9,-7 -1.6,-5.9
  rectangle: -1.4,-7 -1.1,-5.9
  rectangle: -0.9,-7 -0.6,-5.9
  rectangle: -0.4,-7 -0.1,-5.9
  rectangle: 0.1,-7 0.4,-5.9
  rectangle: 0.6,-7 0.9,-5.9
  rectangle: 1.1,-7 1.4,-5.9
  rectangle: 1.6,-7 1.9,-5.9
  rectangle: 2.1,-7 2.4,-5.9
  rectangle: 2.6,-7 2.9,-5.9
  rectangle: 3.1,-7 3.4,-5.9
  rectangle: 3.6,-7 3.9,-5.9
  rectangle: 4.1,-7 4.4,-5.9
  rectangle: 4.6,-7 4.9,-5.9
  rectangle: 5.9,-4.9 7,-4.6
  rectangle: 5.9,-4.4 7,-4.1
  rectangle: 5.9,-3.9 7,-3.6
  rectangle: 5.9,-3.4 7,-3.1
  rectangle: 5.9,-2.9 7,-2.6
  rectangle: 5.9,-2.4 7,-2.1
  rectangle: 5.9,-1.9 7,-1.6
  rectangle: 5.9,-1.4 7,-1.1
  rectangle: 5.9,-0.9 7,-0.6
  rectangle: 5.9,-0.4 7,-0.1
  rectangle: 5.9,0.1 7,0.4
  rectangle: 5.9,0.6 7,0.9
  rectangle: 5.9,1.1 7,1.4
  rectangle: 5.9,1.6 7,1.9
  rectangle: 5.9,2.1 7,2.4
  rectangle: 5.9,2.6 7,2.9
  rectangle: 5.9,3.1 7,3.4
  rectangle: 5.9,3.6 7,3.9
  rectangle: 5.9,4.1 7,4.4
  rectangle: 5.9,4.6 7,4.9
  rectangle: 4.6,5.9 4.9,7
  rectangle: 4.1,5.9 4.4,7
  rectangle: 3.6,5.9 3.9,7
  rectangle: 3.1,5.9 3.4,7
  rectangle: 2.6,5.9 2.9,7
  rectangle: 2.1,5.9 2.4,7
  rectangle: 1.6,5.9 1.9,7
  rectangle: 1.1,5.9 1.4,7
  rectangle: 0.6,5.9 0.9,7
  rectangle: 0.1,5.9 0.4,7
  rectangle: -0.4,5.9 -0.1,7
  rectangle: -0.9,5.9 -0.6,7
  rectangle: -1.4,5.9 -1.1,7
  rectangle: -1.9,5.9 -1.6,7
  rectangle: -2.4,5.9 -2.1,7
  rectangle: -2.9,5.9 -2.6,7
  rectangle: -3.4,5.9 -3.1,7
  rectangle: -3.9,5.9 -3.6,7
  rectangle: -4.4,5.9 -4.1,7
  rectangle: -4.9,5.9 -4.6,7